# Altium footprint library Connector-SimCard.PcbLib: 3 footprints
Each footprint in its own frame and in the unit in brackets; x right, y up, seen from the top. Pads: shape width x height; smd on the part's side, far side on the other; paste and mask are expansions set on the pad; w line width, h text height; cw(c..) or ccw(c..) is an arc to the next point about the centre after c.
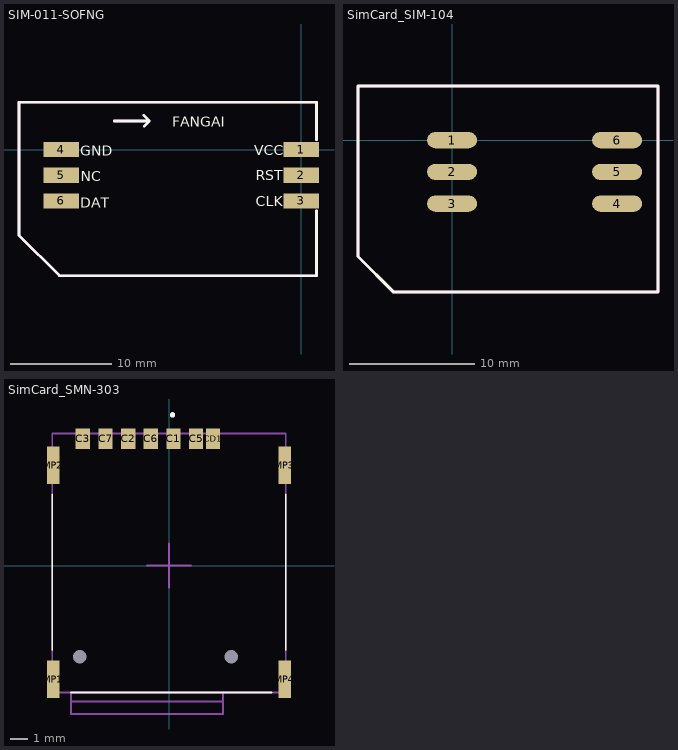
[diagram p0: the footprints below, top view; thin cyan lines are the x and y axes]

## SIM-011-SOFNG [mm]
pads (6):
  rect 3.5x1.5 smd: 1(-0.005,-0.009) 2(-0.005,-2.549) 3(-0.005,-5.089) 4(-23.805,-0.009) 5(-23.805,-2.549) 6(-23.805,-5.089)
Top Overlay:
  lines w0.254: -18.576,2.835 -15.071,2.835 ; -15.655,3.42 -15.071,2.835 ; -15.605,2.302 -15.071,2.835 ; 1.495,-6.08 1.495,-12.509 -24.005,-12.509 -28.005,-8.509 -28.005,4.691 1.495,4.691 1.495,0.956
  text "FANGAI" at -12.811,2.251 h1
  text "VCC" at -4.683,-0.568 h1
  text "RST" at -4.505,-3.032 h1
  text "NC" at -21.9,-3.159 h1
  text "CLK" at -4.53,-5.597 h1
  text "DAT" at -21.95,-5.75 h1
  text "GND" at -21.925,-0.619 h1
Mechanical 29:
  lines w0.254: -18.576,2.835 -15.071,2.835 ; -15.655,3.42 -15.071,2.835 ; -15.605,2.302 -15.071,2.835 ; 1.495,-6.08 1.495,-12.509 -24.005,-12.509 -28.005,-8.509 -28.005,4.691 1.495,4.691 1.495,0.956
  text "'.Designator'" at -17.272,-4.572 h1.02

## SimCard_SIM-104 [mm] "抽拉式Sim卡座"
pads (6):
  oval 4x1.3 smd: 1(0,0) 2(0,-2.54) 3(0,-5.08) 4(13.208,-5.08) 5(13.208,-2.54) 6(13.208,0)
Top Overlay:
  lines w0.254: -7.524,-9.31 -7.524,4.34 16.476,4.34 16.476,-12.16 -4.674,-12.16 -7.524,-9.31
Mechanical 29:
  lines w0.254: -7.524,-9.31 -4.674,-12.16 16.476,-12.16 16.476,4.34 -7.524,4.34 -7.524,-9.31
  text "'.Designator'" at -0.508,-3.556 h1.02
3D body "Sim Card Holder.STEP": height 1.8, standoff 0, extent -0.022,-12.082 16.278,4.318

## SimCard_SMN-303 [mm] "Nano SIM 自弹"
pads (13):
  rect 0.8x1.14 smd: C1(0.25,7.115) C2(-2.29,7.115) C3(-4.83,7.115) C5(1.52,7.115) C6(-1.02,7.115) C7(-3.56,7.115) CD1(2.47,7.115)
  round 0.375 hole 0.75 unplated: MH1(3.5,-5.115) MH2(-5,-5.115)
  rect 0.7x2.1 smd: MP1(-6.5,-6.365) MP2(-6.5,5.635) MP3(6.5,5.635) MP4(6.5,-6.365)
Top Overlay:
  lines w0.1: -6.545,-4.75 -6.545,4 ; -5.5,-7.115 5.75,-7.115 ; 6.545,-4.75 6.545,4
  lines w0.2: 0.2,8.4 cw(c0.2,8.45) 0.2,8.5 ; 0.2,8.4 ccw(c0.2,8.45) 0.2,8.5 ; 0.2,8.4 cw(c0.2,8.45) 0.2,8.5
Top Component Outline:
  lines w0.1: -5.5,-7.625 3.025,-7.625 ; -5.5,-7.15 -5.5,-8.325 3.025,-8.325 3.025,-7.125 ; -6.55,-7.125 6.55,-7.125 6.55,7.4 -6.55,7.4 -6.55,-7.125
Top Component Center:
  lines w0.1: -1.25,0 1.25,0 ; 0,-1.25 0,1.25
Top Value:
  text "'.Comment'" at -3.297,-0.455 h1.27
Top Designator:
  text "'.Designator'" at -4.373,-0.594 h1.52
3D body "nano sim connector.stp": height 1.34, standoff -0.43, extent -6.545,-7.18 6.545,7.4
3D body "SIM card.SLDPRT": height 1.16, standoff 0.39, extent -5.492,-8.26 3.008,3.74